# Altium footprint library TRIM_3214X-1-103E.PcbLib: 1 footprints
Each footprint in its own frame and in the unit in brackets; x right, y up, seen from the top. Pads: shape width x height; smd on the part's side, far side on the other; paste and mask are expansions set on the pad; w line width, h text height; cw(c..) or ccw(c..) is an arc to the next point about the centre after c.
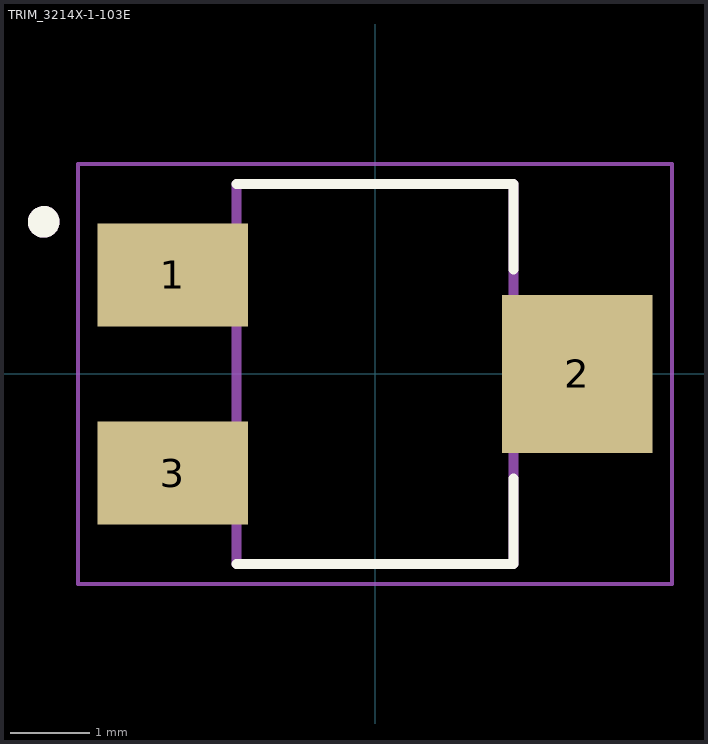
[diagram p0: the footprint, top view; thin cyan lines are the x and y axes]

## TRIM_3214X-1-103E [mm]
pads (3):
  rect 1.9x1.3 smd: 1(-2.55,1.25) 3(-2.55,-1.25)
  rect 1.9x2 smd: 2(2.55,0)
Top Overlay:
  circle w0.2: c-4.18,1.92 r0.1
  lines w0.127: -1.75,-2.4 1.75,-2.4 1.75,-1.32 ; -1.75,2.4 1.75,2.4 1.75,1.32
Mechanical 13:
  circle w0.2: c-4.18,1.92 r0.1
  lines w0.127: -1.75,-2.4 1.75,-2.4 1.75,2.4 -1.75,2.4 -1.75,-2.4
Mechanical 15:
  lines w0.05: -3.75,-2.65 3.75,-2.65 3.75,2.65 -3.75,2.65 -3.75,-2.65
3D body "step_temp.STEP": height 0.8, standoff 0, extent -3.2,-1.6 3.2,1.6